# EAGLE library part P-10- (library con-headers-jp)
HEADER PLUG PINS
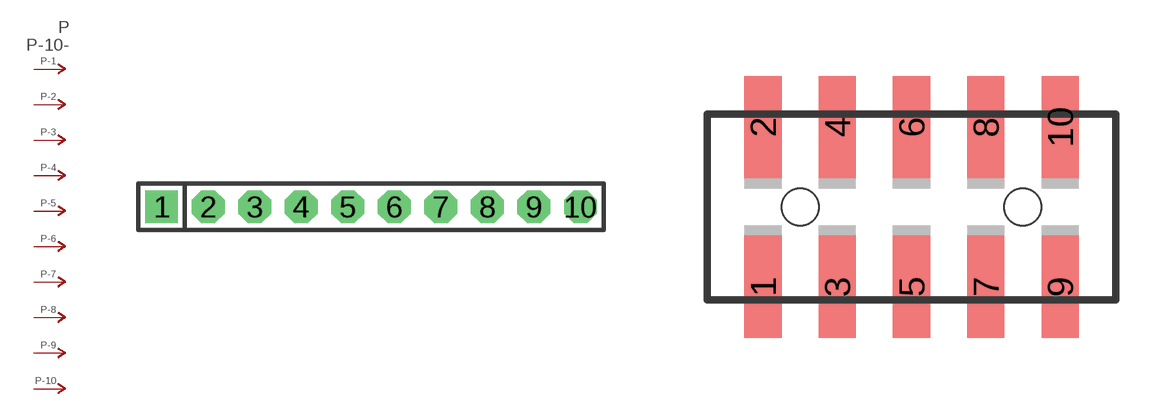
[diagram p12: symbol with the pads of SIP-100-10-40; footprints SIP-100-10-40, 87759-10]

Designator prefix P; gates -2=P-N -3=P-N -4=P-N -5=P-N -6=P-N -7=P-N -8=P-N -9=P-N -10=P-N -1=P-NV

## P-10-SIP-100-40  [SIP-100-10-40]
1  -1:P  pas
2  -2:P  pas
3  -3:P  pas
4  -4:P  pas
5  -5:P  pas
6  -6:P  pas
7  -7:P  pas
8  -8:P  pas
9  -9:P  pas
10  -10:P  pas

## P-10-87759  [87759-10]
Pads as for SIP-100-10-40

## P-10-100-2X05  [DIL-100-2X05]
Pads as for SIP-100-10-40

## P-10-100-2X05_M  [DIL-100-2X05_M]
Pads as for SIP-100-10-40

## P-10-2MM-2X05  [DIL-2MM-2X05]
Pads as for SIP-100-10-40

## P-10-2MM-2X05_M  [DIL-2MM-2X05_M]
Pads as for SIP-100-10-40

## P-10-SIP-100-32  [SIP-100-10-32]
Pads as for SIP-100-10-40

## P-10-SIP-100-40Y  [SIP-100-10-40Y]
Pads as for SIP-100-10-40

## P-10-SIP-100-32Y  [SIP-100-10-32Y]
Pads as for SIP-100-10-40

## P-10-87759_M  [87759-10_M]
Pads as for SIP-100-10-40

## P-10-LCW-110-XX-X-S  [LCW-110-XX-X-S]
Pads as for SIP-100-10-40

## P-10-LCW-110-XX-X-S-RE  [LCW-110-XX-X-S-RE]
Pads as for SIP-100-10-40

## P-10-75869  [75869-10]
Pads as for SIP-100-10-40

## Footprint SIP-100-10-40 (pad centres in mm)
SIP Header - 0.1", 40 mil drill
drill 1.016 pad 1.778 square: 1 -11.43,0
drill 1.016 pad 1.778 octagon: 2 -8.89,0; 3 -6.35,0; 4 -3.81,0; 5 -1.27,0; 6 1.27,0; 7 3.81,0; 8 6.35,0; 9 8.89,0; 10 11.43,0

## Footprint 87759-10 (pad centres in mm)
Molex PCB Pin Headers 2.00mm (.079") Pitch Milli-Grid Header, Vertical SMD
smd 1 x 2.75: 1 -4,-2.15; 2 -4,2.15; 3 -2,-2.15; 4 -2,2.15; 5 0,-2.15; 6 0,2.15; 7 2,-2.15; 8 2,2.15; 9 4,-2.15; 10 4,2.15
hole 1 at -3,0
hole 1 at 3,0

## Footprint DIL-100-2X05 (pad centres in mm)
PIN HEADER - 0.1"
drill 1.016 square: 1 -5.08,-1.27
drill 1.016 octagon: 2 -5.08,1.27; 3 -2.54,-1.27; 4 -2.54,1.27; 5 0,-1.27; 6 0,1.27; 7 2.54,-1.27; 8 2.54,1.27; 9 5.08,-1.27; 10 5.08,1.27

## Footprint DIL-100-2X05_M (pad centres in mm)
PIN HEADER - MIRRORED 0.1"
drill 1.016 square: 1 -5.08,1.27
drill 1.016 octagon: 2 -5.08,-1.27; 3 -2.54,1.27; 4 -2.54,-1.27; 5 0,1.27; 6 0,-1.27; 7 2.54,1.27; 8 2.54,-1.27; 9 5.08,1.27; 10 5.08,-1.27

## Footprint DIL-2MM-2X05 (pad centres in mm)
PIN HEADER - 2MM"
drill 0.711 square: 1 -4,-1
drill 0.711: 2 -4,1; 3 -2,-1; 4 -2,1; 5 0,-1; 6 0,1; 7 2,-1; 8 2,1; 9 4,-1; 10 4,1

## Footprint DIL-2MM-2X05_M (pad centres in mm)
PIN HEADER - MIRRORED 2MM
drill 0.711 square: 1 -4,1
drill 0.711: 2 -4,-1; 3 -2,1; 4 -2,-1; 5 0,1; 6 0,-1; 7 2,1; 8 2,-1; 9 4,1; 10 4,-1

## Footprint SIP-100-10-32 (pad centres in mm)
SIP Header - 0.1", 32 mil drill
drill 0.813 pad 1.778 square: 1 -11.43,0
drill 0.813 pad 1.778 octagon: 2 -8.89,0; 3 -6.35,0; 4 -3.81,0; 5 -1.27,0; 6 1.27,0; 7 3.81,0; 8 6.35,0; 9 8.89,0; 10 11.43,0

## Footprint SIP-100-10-40Y (pad centres in mm)
SIP Header - 0.1", 40 mil drill
drill 1.016 long: 1 -11.43,0; 2 -8.89,0; 3 -6.35,0; 4 -3.81,0; 5 -1.27,0; 6 1.27,0; 7 3.81,0; 8 6.35,0; 9 8.89,0; 10 11.43,0

## Footprint SIP-100-10-32Y (pad centres in mm)
SIP Header - 0.1", 32 mil drill
drill 0.813 long: 1 -11.43,0; 2 -8.89,0; 3 -6.35,0; 4 -3.81,0; 5 -1.27,0; 6 1.27,0; 7 3.81,0; 8 6.35,0; 9 8.89,0; 10 11.43,0

## Footprint 87759-10_M (pad centres in mm)
Molex PCB Pin Headers - MIRRORED PADS 2.00mm (.079") Pitch Milli-Grid Header, Vertical SMD
smd 1 x 2.75: 1 -4,2.15; 2 -4,-2.15; 3 -2,2.15; 4 -2,-2.15; 5 0,2.15; 6 0,-2.15; 7 2,2.15; 8 2,-2.15; 9 4,2.15; 10 4,-2.15
hole 1 at -3,0
hole 1 at 3,0

## Footprint LCW-110-XX-X-S (pad centres in mm)
Samtec LCW Series friction lock strips, 0.025" square pins
drill 0.813 long: 1 11.43,0; 2 8.89,0; 3 6.35,0; 4 3.81,0; 5 1.27,0; 6 -1.27,0; 7 -3.81,0; 8 -6.35,0; 9 -8.89,0; 10 -11.43,0

## Footprint LCW-110-XX-X-S-RE (pad centres in mm)
Samtec LCW Series right angle, friction lock strips, 0.025" square pins
drill 0.813 long: 1 11.43,0; 2 8.89,0; 3 6.35,0; 4 3.81,0; 5 1.27,0; 6 -1.27,0; 7 -3.81,0; 8 -6.35,0; 9 -8.89,0; 10 -11.43,0

## Footprint 75869-10 (pad centres in mm)
HEADER - FCI Quickie
drill 1.016 square: 1 -5.08,-1.27
drill 1.016 octagon: 2 -5.08,1.27; 3 -2.54,-1.27; 4 -2.54,1.27; 5 0,-1.27; 6 0,1.27; 7 2.54,-1.27; 8 2.54,1.27; 9 5.08,-1.27; 10 5.08,1.27